# EAGLE library part LT3694 (library X893)
http://www.linear.com/product/LT3694
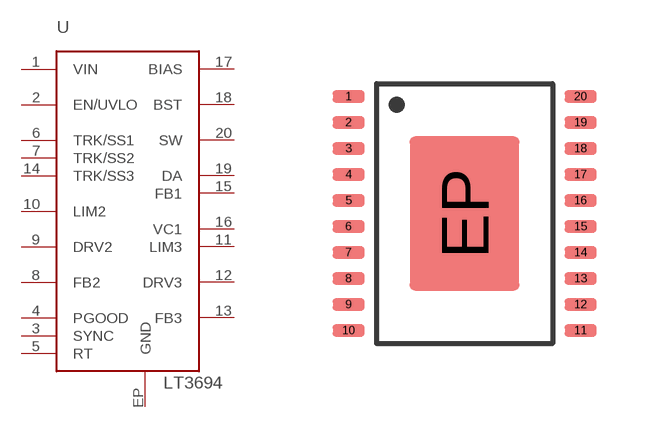
[diagram p149: symbol with the pads of TSSOP20-EP; footprint TSSOP20-EP]

Designator prefix U

## LT3694  [TSSOP20-EP]
1  VIN
2  EN/UVLO
3  SYNC
4  PGOOD
5  RT
6  TRK/SS1
7  TRK/SS2
8  FB2
9  DRV2
10  LIM2
11  LIM3
12  DRV3
13  FB3
14  TRK/SS3
15  FB1
16  VC1
17  BIAS
18  BST
19  DA
20  SW
EP  GND  pwr

## Footprint TSSOP20-EP (pad centres in mm)
smd 0.8 x 0.3: 1 -2.9,2.925; 2 -2.9,2.275; 3 -2.9,1.625; 4 -2.9,0.975; 5 -2.9,0.325; 6 -2.9,-0.325; 7 -2.9,-0.975; 8 -2.9,-1.625; 9 -2.9,-2.275; 10 -2.9,-2.925; 11 2.9,-2.925; 12 2.9,-2.275; 13 2.9,-1.625; 14 2.9,-0.975; 15 2.9,-0.325; 16 2.9,0.325; 17 2.9,0.975; 18 2.9,1.625; 19 2.9,2.275; 20 2.9,2.925
smd 2.74 x 3.86: EP 0,0